# Altium footprint library IMB03CGR.PcbLib: 2 footprints
Each footprint in its own frame and in the unit in brackets; x right, y up, seen from the top. Pads: shape width x height; smd on the part's side, far side on the other; paste and mask are expansions set on the pad; w line width, h text height; cw(c..) or ccw(c..) is an arc to the next point about the centre after c.
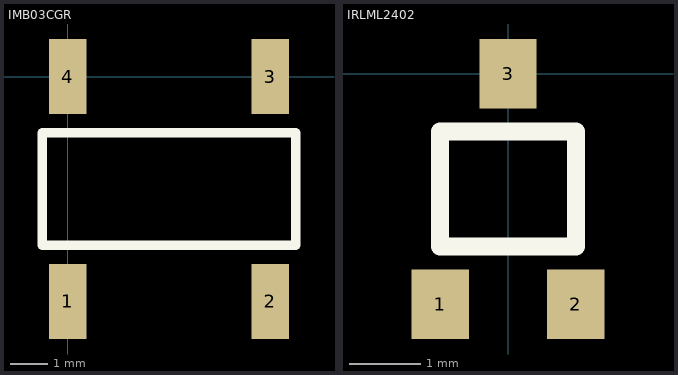
[diagram p0: the footprints below, top view; thin cyan lines are the x and y axes]

## IMB03CGR [mm] "Relay"
pads (4):
  rect 1x2 smd: 1(0,-6) 2(5.4,-6) 3(5.4,0) 4(0,0)
Top Overlay:
  lines w0.254: -0.675,-4.5 6.075,-4.5 6.075,-1.5 -0.675,-1.5 -0.675,-4.5

## IRLML2402 [mm] "Transistor"
pads (3):
  rect 0.802x0.972 smd: 1(-0.95,-3.228) 2(0.95,-3.228) 3(0,0)
Top Overlay:
  lines w0.254: -0.95,-2.421 -0.95,-0.807 0.95,-0.807 0.95,-2.421 -0.95,-2.421